# EAGLE library part PBH2U_S (library switch-e-switch)
2PDT PUSHBUTTON SWITCH
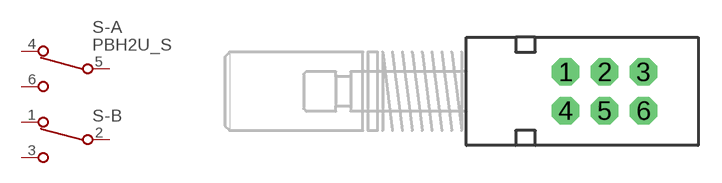
[diagram p7: symbol with the pads of PBH2U; footprint PBH2U]

Designator prefix S; gates -A=1PDT-NV -B=1PDT-N

## PBH2U_S  [PBH2U]
1  -B:A-NC  pas
2  -B:A-COM  pas
3  -B:A-NO  pas
4  -A:A-NC  pas
5  -A:A-COM  pas
6  -A:A-NO  pas

## Footprint PBH2U (pad centres in mm)
Pushbutton Switch PBH Series
drill 0.711 pad 1.778 octagon: 1 -2.5,1.25; 2 0,1.25; 3 2.5,1.25; 4 -2.5,-1.25; 5 0,-1.25; 6 2.5,-1.25